# Altium schematic symbol library IC.SchLib: 55 symbols
Pins are listed as number, name and electrical type; pins without a type are passive.

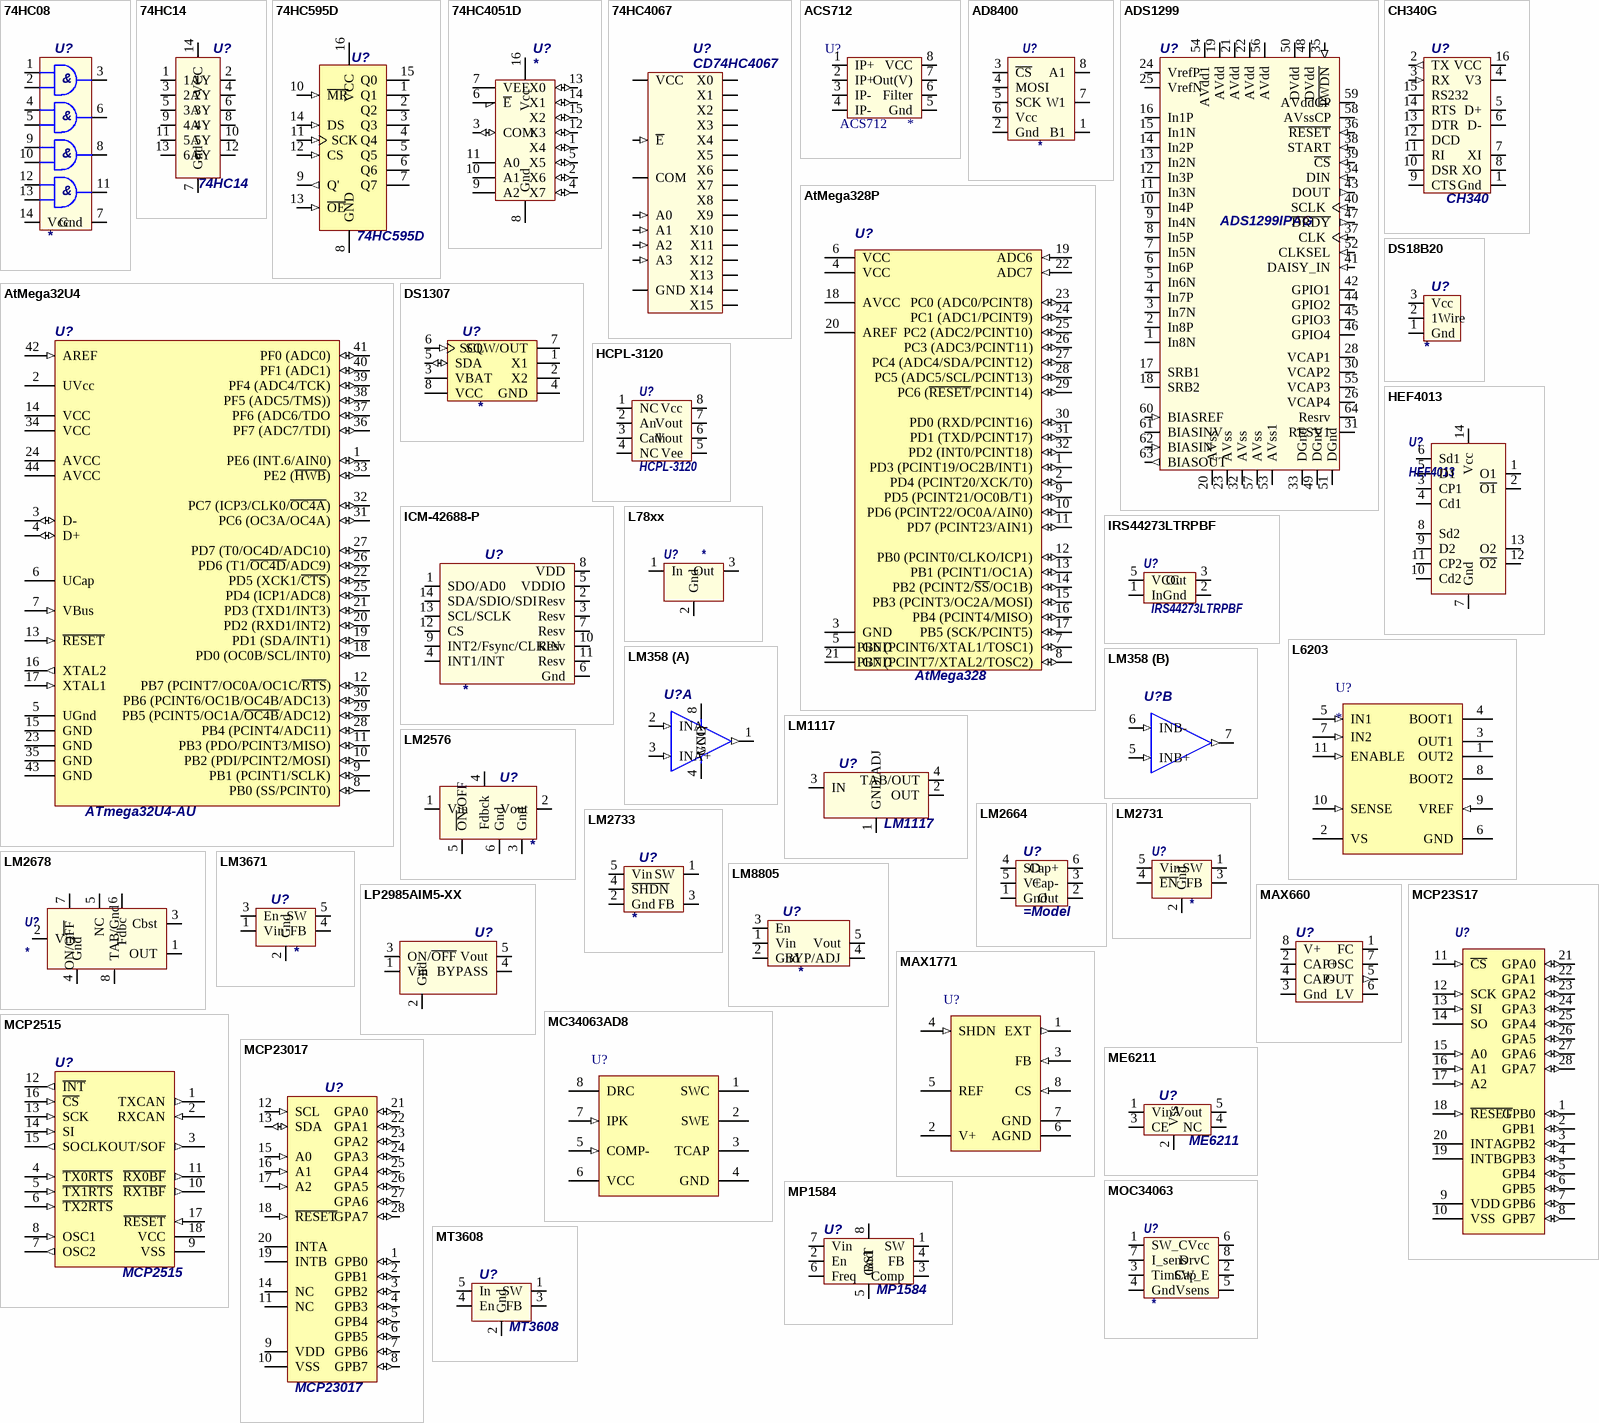
[diagram p0: symbols 74HC08 to MT3608]

## 74HC08
designator U?
Logic gate 2&; Model: *
footprint SO-14 (SOIC, 14-Leads, Body 8.8x4mm, Pitch 1.27mm)
pins: 1 1A, 2 1B, 3 1Y, 4 2A, 5 2B, 6 2Y, 7 Gnd, 8 3Y, 9 3A, 10 3B, 11 4Y, 12 4A, 13 4B, 14 Vcc
text: &

## 74HC14
designator U?
Schmitt Trigger
footprint SO-14 (SOIC, 14-Leads, Body 8.8x4mm, Pitch 1.27mm)
footprint DIP-14 (DIP, 14-Leads, Row Spacing 7.62mm, Pitch 2.54mm, Body 19.6x6.3mm)
pins: 1 1A, 2 1Y, 3 2A, 4 2Y, 5 3A, 6 3Y, 7 Gnd, 8 4Y, 9 4A, 10 5Y, 11 5A, 12 6Y, 13 6A, 14 VCC

## 74HC595D
designator U?
8-Bit Serial-In, Serial or Parallel-Out Shift Register with Output Latches, 3-State, 2 to 6 V, -40 to 125 degC, 16-Pin SOP, RoHS, Tube; Manufacturer: NXP Semiconductors; Logic Case Style: SOIC; Shift Register Function: SerialtoParallel,SerialtoSerial; No. of Elements: 1Element; Supply Voltage Min: 2V; SVHC: NoSVHC(17-Dec-2014); Supply Voltage Max: 6V; IC Output Type: TriState; No. of Pins: 16Pins; Operating Temperature Min: -40degC; Operating Temperature Max: 125degC; MSL: MSL1-Unlimited; Datasheet URL: http://datasheet.octopart.com/74HC595D%2C112-Philips-datasheet-11979826.pdf; Package Reference: SOT109-1; Manufacturer URL: http://www.nxp.com/; Package URL: http://www.nxp.com/documents/outline_drawing/SOT109-1.pdf; Datasheet Version: Rev. 6, 12/2011; Packaging: Each; Package Description: 16-Pin Small Outline Integrated Circuit, Body 9.9 x 3.9 mm, Pitch 1.27 mm; Logic Type: ShiftRegister
footprint SOIC-16 (SOP, 16-Leads, Body 9.9x3.9mm, Pitch 1.27mm)
pins: 1 Q1 (hiz) "parallel data output 1", 2 Q2 (hiz) "parallel data output 2", 3 Q3 (hiz) "parallel data output 3", 4 Q4 (hiz) "parallel data output 4", 5 Q5 (hiz) "parallel data output 5", 6 Q6 (hiz) "parallel data output 6", 7 Q7 (hiz) "parallel data output 7", 8 GND (power) "ground (0 V)", 9 Q' (out) "serial data output", 10 ~{MR} (in) "master reset (active LOW)", 11 SCK (in) "shift register clock input", 12 CS (in) "storage register clock input", 13 ~{OE} (in) "output enable input (active LOW)", 14 DS (in) "serial data input", 15 Q0 (hiz) "parallel data output 0", 16 VCC (power) "supply voltage"

## 74HC4051D
designator U?
8-ch MUX-DEMUX; Model: *
footprint 74HC4051D
pins: 1 X4 (io), 2 X6 (io), 3 COM (io), 4 X7 (io), 5 X5 (io), 6 ~{E} (power), 7 VEE (power), 8 Gnd (power), 9 A2 (power), 10 A1 (power), 11 A0 (power), 12 X3 (io), 13 X0 (io), 14 X1 (io), 15 X2 (io), 16 Vcc (power)

## 74HC4067
designator U?, comment CD74HC4067
footprint SO-24
pins: A0 (in), A1 (in), A2 (in), A3 (in), COM (io), E ~{E} (in), GND (power), VCC (power), X0 (io), X1 (io), X2 (io), X3 (io), X4 (io), X5 (io), X6 (io), X7 (io), X8 (io), X9 (io), X10 (io), X11 (io), X12 (io), X13 (io), X14 (io), X15 (io)

## ACS712
designator U?
Fully Integrated, Hall Effect-Based Linear Current Sensor / with 2.1 kVRMS Isolation and a Low-Resistance Current Conductor; Current: *
footprint SO-8
pins: 1 IP+, 2 IP+, 3 IP-, 4 IP-, 5 Gnd, 6 Filter, 7 Out(V), 8 VCC

## AD8400
designator U?
Digital potentiometer 1-ch; Value: *
footprint SO-8
pins: 1 B1, 2 Gnd, 3 ~{CS}, 4 MOSI, 5 SCK, 6 Vcc, 7 W1, 8 A1

## ADS1299
designator U?, comment ADS1299IPAG
ComponentLink1Description: Datasheet; ComponentLink1URL: https://www.ti.com/lit/ds/symlink/ads1299.pdf?HQS=dis-mous-null-mousermode-dsf-pf-null-wwe&ts=1616221614685
footprint TQFP64_0.5 (QFP, 64-Leads, Body 10x10mm, Pitch 0.5mm, IPC Medium Density)
pins: 1 In8N, 2 In8P, 3 In7N, 4 In7P, 5 In6N, 6 In6P, 7 In5N, 8 In5P, 9 In4N, 10 In4P, 11 In3N, 12 In3P, 13 In2N, 14 In2P, 15 In1N, 16 In1P, 17 SRB1 (io), 18 SRB2 (io), 19 AVdd "Analog supply. Connect a 1-μF capacitor to AVSS.", 20 AVss "Analog ground", 21 AVdd, 22 AVdd, 23 AVss, 24 VrefP "t Positive analog reference voltage. Connect a minimum 10-μF capacitor to VREFN.", 25 VrefN "Negative analog reference voltage.", 26 VCAP4 "Analog bypass capacitor pin. Connect a 1-μF capacitor to AVSS.", 28 VCAP1 "Analog bypass capacitor pin. Connect a 100-μF capacitor to AVSS.", 30 VCAP2 "Analog bypass capacitor pin. Connect a 1-μF capacitor to AVSS.", 31 RESV1 "Reserved for future use, connect directly to DGND", 32 AVss, 33 DGnd (power), 34 DIN (in), 35 ~{PWDN} (in), 36 ~{RESET} (in) "System reset, active low", 37 CLK (in), 38 START (in) "Synchronization signal to start or restart a conversion", 39 ~{CS} (in), 40 SCLK (in), 41 DAISY_IN (in) "Daisy-chain input", 42 GPIO1 (io) "Connect to DGND with a ≥10-kΩ resistor if unused.", 43 DOUT (out), 44 GPIO2 (io) "Connect to DGND with a ≥10-kΩ resistor if unused.", 45 GPIO3 (io) "Connect to DGND with a ≥10-kΩ resistor if unused.", 46 GPIO4 (io) "Connect to DGND with a ≥10-kΩ resistor if unused.", 47 ~{DRDY} (out), 48 DVdd "Digital power supply. Connect a 1-μF capacitor to DGND", 49 DGnd, 50 DVdd, 51 DGnd, 52 CLKSEL (in), 53 AVss1 "Analog ground", 54 AVdd1 "Analog supply. Connect a 1-μF capacitor to AVSS.", 55 VCAP3 "Analog bypass capacitor pin. Connect a parallel combination of 1-μF and 0.1-μF", 56 AVdd, 57 AVss, 58 AVssCP "Analog ground for charge pump", 59 AVddCP "Charge pump analog supply. Connect a 1-μF capacitor to AVSS, pin 58.", 60 BIASREF (in) "Bias drive noninverting input", 61 BIASINV (io) "Bias drive inverting input", 62 BIASIN (in) "Bias drive input to MUX", 63 BIASOUT (out) "Bias drive output", 64 Resrv "Reserved for future use, leave as open circuit"

## AtMega32U4
designator U?, comment ATmega32U4-AU
8-bit AVR Microcontroller, 2.7-5.5V, 16MHz, 32KB Flash, 1KB EEPROM, 2.5KB SRAM, USB Controller, 44-pin TQFP, Industrial Grade (-40°C to 85°C), Ext Osc; RevisionNote: DatasheetVersion updated. URLs added.; ComponentLink1Description: Manufacturer URL; PackageDescription: 44-Pin Plastic Thin Quad Flat Pack, 10 x 10 x 1.0 mm Body, 0.8 mm Pitch (TQFP); DatasheetVersion: revF, Nov-2010; ComponentLink2URL: http://www.atmel.com/dyn/resources/prod_documents/doc7766.pdf; ComponentLink1URL: http://www.atmel.com/; PackageReference: 44ML; ComponentLink2Description: ATmega16U4/32U4 Datasheet; PackageVersion: rev.G, Jul-2007; ComponentLink3URL: http://www.atmel.com/dyn/resources/prod_documents/7766S.pdf; ComponentLink3Description: ATmega16U4 ATmega32U4 Summary
footprint TQFP-44 (Thin QFP, 44-Leads, Body 10x10mm, Pitch 0.8mm, IPC Medium Density)
pins: 1 PE6 (INT.6/AIN0) (io), 2 UVcc (power), 3 D- (io), 4 D+ (io), 5 UGnd (power), 6 UCap, 7 VBus (in), 8 PB0 (SS/PCINT0) (io), 9 PB1 (PCINT1/SCLK) (io), 10 PB2 (PDI/PCINT2/MOSI) (io), 11 PB3 (PDO/PCINT3/MISO) (io), 12 PB7 (PCINT7/OC0A/OC1C/~{RTS}) (io), 13 ~{RESET} (in), 14 VCC (power), 15 GND (power), 16 XTAL2 (out), 17 XTAL1 (in), 18 PD0 (OC0B/SCL/INT0) (io), 19 PD1 (SDA/INT1) (io), 20 PD2 (RXD1/INT2) (io), 21 PD3 (TXD1/INT3) (io), 22 PD5 (XCK1/~{CTS}) (io), 23 GND (power), 24 AVCC (power), 25 PD4 (ICP1/ADC8) (io), 26 PD6 (T1/~{OC4D}/ADC9) (io), 27 PD7 (T0/OC4D/ADC10) (io), 28 PB4 (PCINT4/ADC11) (io), 29 PB5 (PCINT5/OC1A/~{OC4B}/ADC12) (io), 30 PB6 (PCINT6/OC1B/OC4B/ADC13) (io), 31 PC6 (OC3A/OC4A) (io), 32 PC7 (ICP3/CLK0/~{OC4A}) (io), 33 PE2 (~{HWB}) (io), 34 VCC (power), 35 GND (power), 36 PF7 (ADC7/TDI) (io), 37 PF6 (ADC6/TDO (io), 38 PF5 (ADC5/TMS)) (io), 39 PF4 (ADC4/TCK) (io), 40 PF1 (ADC1) (io), 41 PF0 (ADC0) (io), 42 AREF (in), 43 GND (power), 44 AVCC (power)

## AtMega328P
designator U?, comment AtMega328
footprint TQFP-32 (Thin QFP, 32-Leads, Body 7x7mm, Pitch 0.8mm, IPC Low Density)
pins: 1 PD3 (PCINT19/OC2B/INT1) (io), 2 PD4 (PCINT20/XCK/T0) (io), 3 GND (power), 4 VCC (power), 5 GND (power), 6 VCC (power), 7 PB6 (PCINT6/XTAL1/TOSC1) (io), 8 PB7 (PCINT7/XTAL2/TOSC2) (io), 9 PD5 (PCINT21/OC0B/T1) (io), 10 PD6 (PCINT22/OC0A/AIN0) (io), 11 PD7 (PCINT23/AIN1) (io), 12 PB0 (PCINT0/CLKO/ICP1) (io), 13 PB1 (PCINT1/OC1A) (io), 14 PB2 (PCINT2/~{SS}/OC1B) (io), 15 PB3 (PCINT3/OC2A/MOSI) (io), 16 PB4 (PCINT4/MISO) (io), 17 PB5 (SCK/PCINT5) (io), 18 AVCC (power), 19 ADC6 (in), 20 AREF, 21 GND (power), 22 ADC7 (in), 23 PC0 (ADC0/PCINT8) (io), 24 PC1 (ADC1/PCINT9) (io), 25 PC2 (ADC2/PCINT10) (io), 26 PC3 (ADC3/PCINT11) (io), 27 PC4 (ADC4/SDA/PCINT12) (io), 28 PC5 (ADC5/SCL/PCINT13) (io), 29 PC6 (~{RESET}/PCINT14) (io), 30 PD0 (RXD/PCINT16) (io), 31 PD1 (TXD/PCINT17) (io), 32 PD2 (INT0/PCINT18) (io)

## CH340G
designator U?, comment CH340
footprint CH340G
pins: 1 Gnd (power), 2 TX (out), 3 RX (in), 4 V3 (power), 5 D+ (power), 6 D- (power), 7 XI (power), 8 XO (power), 9 CTS (power), 10 DSR (power), 11 RI (power), 12 DCD (power), 13 DTR (power), 14 RTS (power), 15 RS232 (power), 16 VCC (power)

## DS18B20
designator U?
1Wire temperature sensor; Model: *
footprint TO-92 (TO, Flat Index; 3 In-Line, Axial Leads; Body Dia. 4.7mm; Leads 0.56 x 0.51 mm (max))
pins: 1 Gnd, 2 1Wire, 3 Vcc

## DS1307
designator U?
Real time clock IC; Model: *
footprint SO-8
footprint DIP-8 (DIP, 8-Pin, Row Spacing 7.62 mm, Pitch 2.54 mm)
pins: 1 X1, 2 X2, 3 VBAT (power), 4 GND (power), 5 SDA (io), 6 SCL (in), 7 SQW/OUT (oc), 8 VCC (power)

## HCPL-3120
designator U?
ComponentLink1Description: Datasheet; ComponentLink1URL: https://static.chipdip.ru/lib/222/DOC000222648.pdf
footprint DIP-8 (DIP, 8-Pin, Row Spacing 7.62 mm, Pitch 2.54 mm)
footprint SO-8-300 (SMT, 8-Leads, Body 9.7x6.6mm, Pitch 2.54mm)
pins: 1 NC, 2 An, 3 Cath, 4 NC, 5 Vee, 6 Vout, 7 Vout, 8 Vcc

## HEF4013
designator U?
Dual D-type flip-flop
footprint SO-14 (SOIC, 14-Leads, Body 8.8x4mm, Pitch 1.27mm)
pins: 1 O1, 2 ~{O1}, 3 CP1, 4 Cd1, 5 D1, 6 Sd1, 7 Gnd, 8 Sd2, 9 D2, 10 Cd2, 11 CP2, 12 ~{O2}, 13 O2, 14 Vcc

## ICM-42688-P
designator U?
IMU 6 axis; Model: *
footprint LGA-14N
pins: 1 SDO/AD0 "AP_SDO: AP SPI serial data output (4-wire mode);", 2 Resv "No Connect or Connect to GND", 3 Resv "No Connect or Connect to GND", 4 INT1/INT "INT1: Interrupt 1 (Note: INT1 can be push-pull or open drain)", 5 VDDIO "IO power supply voltage", 6 Gnd "Connect to GND", 7 Resv "No Connect or Connect to GND", 8 VDD "Power supply voltage", 9 INT2/Fsync/CLKIN "INT2: Interrupt 2 (Note: INT2 can be push-pull or open drain)", 10 Resv "No Connect or Connect to GND", 11 Resv "No Connect or Connect to GND", 12 CS "AP SPI Chip select (AP SPI interface); Connect to VDDIO if using AP I3CSM / I2C", 13 SCL/SCLK "AP_SCL: AP I3CSM / I2C Serial Clock; AP_SCLK - SPI clock", 14 SDA/SDIO/SDI "AP_SDA: AP I3CSM / I2C serial data; AP_SDIO: AP SPI serial data I/O (3-wire"

## IRS44273LTRPBF
designator U?
MOSFET driver 1.5/1.5A; Model: IRS44273LTRPBF
footprint SOT-23-5 (SOT23, 5-Leads, Body 2.15x1.4mm, Pitch 0.65mm, IPC Medium Density); pin to pad 3>3+4
pins: 1 In, 2 Gnd, 3 Out, 5 VCC

## L78xx
designator U?
Output voltage: *; Current: *; Power: *; Model: *
footprint TO-220 (TO, Thru-Hole, Vertical, Heatsink Mounted; 3 In-Line Leads; Pitch 2.54 mm)
footprint D-PAK (D-PAK, 4-Leads, Body 6.1x6.6mm, Pitch 2.28mm, Lead Span 9.8mm, IPC Low Density); pin to pad 2>4
footprint D2-PAK (D2-PAK, 4-Leads, Body 9.2x10.2mm, Pitch 2.54mm, Lead Span 15.4mm, IPC Medium Density); pin to pad 2>4
pins: 1 In, 2 Gnd, 3 Out

## L6203
designator U?
footprint MULTIWATT11V (THD, 11-Leads, Body 20.2x5mm, Pitch 1.7mm)
pins: 1 OUT2 (oe) "Ouput of 2nd Half Bridge", 2 VS (power) "Supply Voltage", 3 OUT1 (oe) "Output of first Half Bridge", 4 BOOT1 "A boostrap capacitor connected to this pin ensures efficient driving of the upper POWER DMOS transistor.", 5 IN1 (in) "Digital Input from the Motor Controller", 6 GND (power) "Common Ground Terminal", 7 IN2 (in) "Digital Input from the Motor Controller", 8 BOOT2 "A boostrap capacitor connected to this pin ensures efficient driving of the upper POWER DMOS transistor.", 9 VREF (in) "Internal voltage reference. A capacitor from this pin to GND is recommended. The internal Ref. Voltage can source out a current of 2mA max.", 10 SENSE (in) "A resistor Rsense connected to this pin provides feedback for motor current control.", 11 ENABLE (in) "When a logic high is present on this pin the DMOS POWER transistors are enabled to be selectively driven by IN1 and IN2."

## LM358
designator U?
footprint SO-8
part A pins: 1 OUTA (out), 2 INA- (in), 3 INA+ (in), 4 GND, 8 VCC
part B pins: 5 INB+ (in), 6 INB- (in), 7 OUTB (out)

## LM1117
designator U?
Model: *
footprint SOT-223 (SOT223, 4-Leads, Body 6.5x3.5mm, Pitch 2.3mm, Lead Span 7mm, IPC Low Density)
pins: 1 GND/ADJ, 2 OUT, 3 IN, 4 TAB/OUT

## LM2576
designator U?
Model: *; Output voltage: *; Output current: *; ComponentLink1Description: Datasheet; ComponentLink1URL: https://static.chipdip.ru/lib/713/DOC002713717.pdf
footprint TO-263-5 (D2-PAK, 6-Leads, Body 8.6x10.2mm, Pitch 1.7mm, Lead Span 14.1mm, IPC Medium Density)
pins: 1 Vin, 2 Vout, 3 Gnd, 4 Fdbck, 5 ~{ON}/OFF, 6 Gnd

## LM2664
designator U?
Switched Capacitor Voltage Converter/Inverter
footprint SOT-23-6 (SOT23, 5-Leads, Body 2.15x1.4mm, Pitch 0.65mm, IPC Medium Density)
pins: 1 Gnd, 2 Out, 3 Cap-, 4 SD "Shutdown control pin, tie this pin to V+ in normal operation, and to GND for shutdown", 5 V+, 6 Cap+

## LM2678
designator U?
Voltage: *; ComponentLink1Description: Datasheet; ComponentLink1URL: https://static.chipdip.ru/lib/142/DOC000142736.pdf
footprint TO-263-7 (DPAK, 7-Leads, Body 9.4x10.4mm, Pitch 1.27mm, IPC High Density)
pins: 1 OUT, 2 Vin, 3 Cbst, 4 Gnd, 5 NC, 6 Fdbc, 7 ON/O~{FF} , 8 TAB/Gnd

## LM2731
designator U?
DC-DC Step-Up converter; Model: *
footprint SOT-23-5 (SOT23, 5-Leads, Body 2.15x1.4mm, Pitch 0.65mm, IPC Medium Density)
pins: 1 SW, 2 Gnd, 3 FB, 4 ~{EN}, 5 Vin

## LM2733
designator U?
DC-DC Step-Up convertor; Model: *
footprint SOT-23-5 (SOT23, 5-Leads, Body 2.15x1.4mm, Pitch 0.65mm, IPC Medium Density)
pins: 1 SW, 2 Gnd, 3 FB, 4 ~{SHDN}, 5 Vin

## LM3671
designator U?
Step-Down DC-DC Converter 2-MHz, 600-mA; Model: *; Voltage: *; ComponentLink1Description: Datasheet; ComponentLink1URL: https://static.chipdip.ru/lib/550/DOC001550787.pdf
footprint SOT-23-5 (SOT23, 5-Leads, Body 2.15x1.4mm, Pitch 0.65mm, IPC Medium Density)
pins: 1 Vin, 2 Gnd, 3 En "Enable pin. The device is in shutdown mode when voltage to this pin is < 0.4", 4 FB, 5 SW "Typ. L = 2.2uH"

## LM8805
designator U?
LDO Regulator; Model: *; Voltage: *; Current: *
footprint SOT-23-5 (SOT23, 5-Leads, Body 2.15x1.4mm, Pitch 0.65mm, IPC Medium Density)
pins: 1 Vin, 2 Gnd, 3 En, 4 BYP/ADJ, 5 Vout

## LP2985AIM5-XX
designator U?
LDO voltage regulator; ComponentLink1Description: Datasheet; ComponentLink1URL: https://static.chipdip.ru/lib/159/DOC000159844.pdf; Vout: *
footprint SOT-23-5 (SOT23, 5-Leads, Body 2.15x1.4mm, Pitch 0.65mm, IPC Medium Density)
pins: 1 Vin, 2 Gnd, 3 ON/~{OFF}, 4 BYPASS "Bypass cap for reduce noise, =>0.01uF", 5 Vout "Min cap 2.2uF"

## MAX660
designator U?
DC-DC converter/inverter/doubler switched capacitor; Current: 0.1A; Vin: 1.5...5.5; Frequency: 80kHz; ComponentLink1Description: Datasheet; ComponentLink1URL: https://static.chipdip.ru/lib/235/DOC000235556.pdf
footprint SO-8
footprint DIP-8 (DIP, 8-Pin, Row Spacing 7.62 mm, Pitch 2.54 mm)
pins: 1 FC "Frequency Control for internal oscillator", 2 CAP+ "Charge-Pump Capacitor, Positive Terminal", 3 Gnd, 4 CAP- "Charge-Pump Capacitor, Negative Termina", 5 OUT (out), 6 LV, 7 OSC, 8 V+

## MAX1771
designator U?
ComponentLink1Description: Datasheet; ComponentLink1URL: https://lib.chipdip.ru/300/DOC000300892.pdf
footprint SO-8
footprint DIP-8 (DIP, 8-Pin, Row Spacing 7.62 mm, Pitch 2.54 mm)
pins: 1 EXT (out) "Gate Drive for External N-Channel Power Transistor", 2 V+ (power) "Power-Supply Input. Also acts as a voltage-sense point when in bootstrapped mode.", 3 FB (in) "Feedback Input for Adjustable-Output Operation. Connect to ground for fixed-output operation. Use a resistor divider network to adjust the output voltage. See Setting the Output Voltage section.", 4 SHDN (in) "Active-High TTL/CMOS Logic-Level Shutdown Input. In shutdown mode, VOUT is a diode drop below V+ (due to the DC path from V+ to the output) and the supply current drops to 5 uA maximum. Connect to ground for normal operation.", 5 REF "1.5V Reference Output that can source 100µA for external loads. Bypass to GND with 0.1 uF. The reference is disabled in shutdown.", 6 AGND (power) "Analog Ground", 7 GND (power) "High-Current Ground Return for the Output Driver", 8 CS (in) "Positive Input to the Current-Sense Amplifier. Connect the current-sense resistor between CS and GND."

## MC34063AD8
designator U?
footprint SO-8
pins: 1 SWC (oc), 2 SWE (oe), 3 TCAP, 4 GND (power), 5 COMP- (in), 6 VCC (power), 7 IPK (in), 8 DRC (oc)

## MCP23S17
designator U?
footprint SO-28 (SOIC, 28-Leads, Body 17.9x7.5mm, Pitch 1.27mm, IPC Medium Density)
pins: 1 GPB0 (io), 2 GPB1 (io), 3 GPB2 (io), 4 GPB3 (io), 5 GPB4 (io), 6 GPB5 (io), 7 GPB6 (io), 8 GPB7 (io), 9 VDD (power), 10 VSS (power), 11 ~{CS} (in), 12 SCK (in), 13 SI (in), 14 SO (hiz), 15 A0 (in), 16 A1 (in), 17 A2 (in), 18 ~{RESET} (in), 19 INTB (oc), 20 INTA (oc), 21 GPA0 (io), 22 GPA1 (io), 23 GPA2 (io), 24 GPA3 (io), 25 GPA4 (io), 26 GPA5 (io), 27 GPA6 (io), 28 GPA7 (io)

## MCP2515
designator U?
CAN bus controller
footprint SOIC-18 (SOIC, 18-Leads, Body 11.5x7.5mm, Pitch 1.27mm, IPC High Density)
pins: 1 TXCAN (out), 2 RXCAN (in), 3 CLKOUT/SOF (out), 4 ~{TX0RTS} (in), 5 ~{TX1RTS} (in), 6 ~{TX2RTS} (in), 7 OSC2 (out), 8 OSC1 (in), 9 VSS (power), 10 ~{RX1BF} (out), 11 ~{RX0BF} (out), 12 ~{INT} (out), 13 SCK (in), 14 SI (in), 15 SO (out), 16 ~{CS} (in), 17 ~{RESET} (in), 18 VCC (power)

## MCP23017
designator U?
footprint SO-28 (SOIC, 28-Leads, Body 17.9x7.5mm, Pitch 1.27mm, IPC High Density)
footprint DIP-28
pins: 1 GPB0 (io), 2 GPB1 (io), 3 GPB2 (io), 4 GPB3 (io), 5 GPB4 (io), 6 GPB5 (io), 7 GPB6 (io), 8 GPB7 (io), 9 VDD (power), 10 VSS (power), 11 NC, 12 SCL (in), 13 SDA (io), 14 NC, 15 A0 (in), 16 A1 (in), 17 A2 (in), 18 ~{RESET} (in), 19 INTB (oc), 20 INTA (oc), 21 GPA0 (io), 22 GPA1 (io), 23 GPA2 (io), 24 GPA3 (io), 25 GPA4 (io), 26 GPA5 (io), 27 GPA6 (io), 28 GPA7 (io)

## ME6211
designator U?
Linear voltage regulator LDO; Model: ME6211
footprint SOT-23-5 (SOT23, 5-Leads, Body 2.15x1.4mm, Pitch 0.65mm, IPC Medium Density)
pins: 1 Vin, 2 Vss, 3 CE, 4 NC, 5 Vout

## MOC34063
designator U?
Model: *
footprint SO-8
pins: 1 SW_C, 2 SW_E, 3 TimCap, 4 Gnd, 5 Vsens, 6 Vcc, 7 I_sens, 8 DrvC

## MP1584
designator U?
ComponentLink1Description: Datasheet; ComponentLink1URL: https://static.chipdip.ru/lib/807/DOC005807061.pdf
footprint SO-8
pins: 1 SW, 2 En, 3 Comp, 4 FB, 5 Gnd, 6 Freq, 7 Vin, 8 BST

## MT3608
designator U?
DC-DC Step-Up converter
footprint SOT-23-6 (SOT23, 5-Leads, Body 2.15x1.4mm, Pitch 0.65mm, IPC Medium Density)
pins: 1 SW, 2 Gnd, 3 FB, 4 En, 5 In

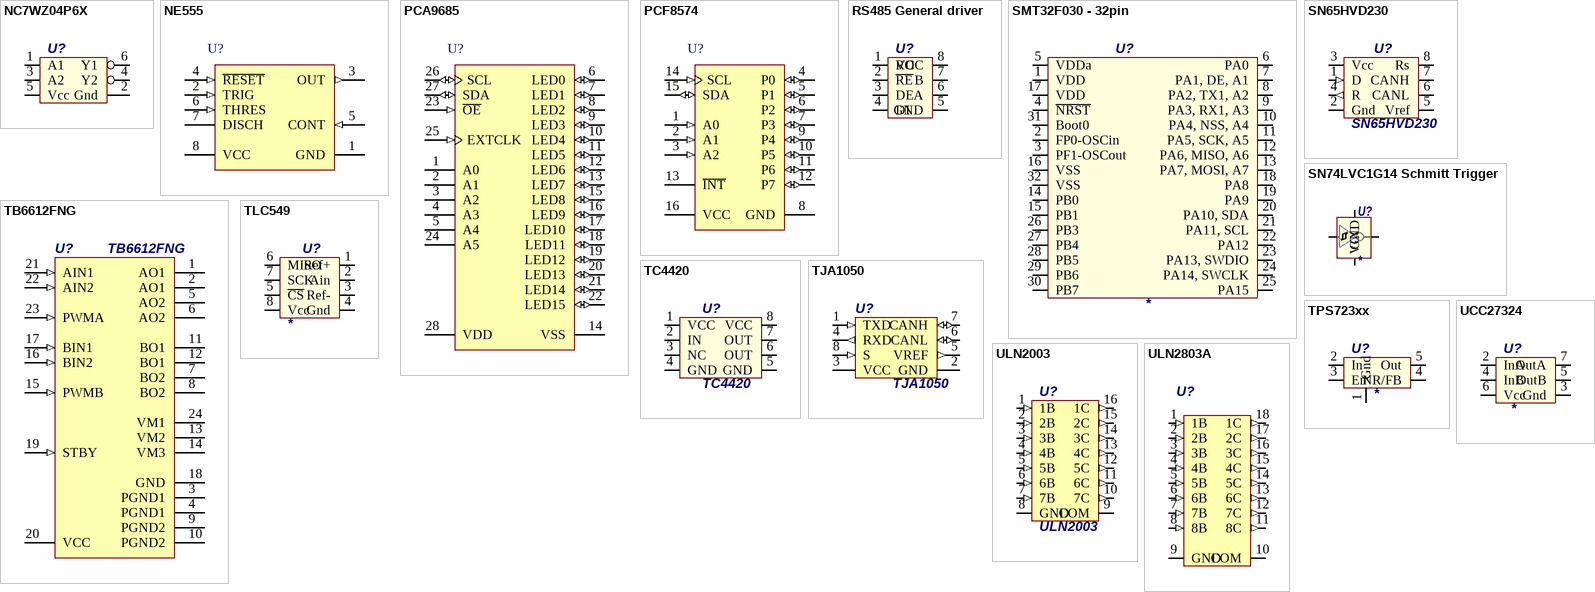
[diagram p1: symbols NC7WZ04P6X to ULN2803A]

## NC7WZ04P6X
designator U?  (value not drawn)
Dual invertor with Schmitt trigger
footprint SC70-6
pins: 1 A1, 2 Gnd, 3 A2, 4 Y2, 5 Vcc, 6 Y1

## NE555
designator U?
footprint SO-8
footprint DIP-8 (DIP, 8-Pin, Row Spacing 7.62 mm, Pitch 2.54 mm)
pins: 1 GND (power), 2 TRIG (in), 3 OUT (out), 4 ~{RESET} (in), 5 CONT (in), 6 THRES (in), 7 DISCH (oc), 8 VCC (power)

## PCA9685
designator U?
footprint TSSOP-28 (SOP, 28-Leads, Body 9.7x4.4mm, Pitch 0.65mm, NXP Recommended)
pins: 1 A0 "address input 0", 2 A1 "address input 1", 3 A2 "address input 2", 4 A3 "address input 3", 5 A4 "address input 4", 6 LED0 (io) "LED driver 0", 7 LED1 (io) "LED driver 1", 8 LED2 (io) "LED driver 2", 9 LED3 (io) "LED driver 3", 10 LED4 (io) "LED driver 4", 11 LED5 (io) "LED driver 5", 12 LED6 (io) "LED driver 6", 13 LED7 (io) "LED driver 7", 14 VSS (power) "supply ground", 15 LED8 (io) "LED driver 8", 16 LED9 (io) "LED driver 9", 17 LED10 (io) "LED driver 10", 18 LED11 (io) "LED driver 11", 19 LED12 (io) "LED driver 12", 20 LED13 (io) "LED driver 13", 21 LED14 (io) "LED driver 14", 22 LED15 (io) "LED driver 15", 23 ~{OE} (in) "active LOW output enable", 24 A5 "address input 5", 25 EXTCLK (in) "external clock input", 26 SCL (io) "serial clock line", 27 SDA (io) "serial data line", 28 VDD (power) "supply voltage"

## PCF8574
designator U?
footprint SOIC-16W (SOIC, 16-Leads, Body 10.5x7.6mm, Pitch 1.27mm, IPC Medium Density)
pins: 1 A0 (in), 2 A1 (in), 3 A2 (in), 4 P0 (io), 5 P1 (io), 6 P2 (io), 7 P3 (io), 8 GND (power), 9 P4 (io), 10 P5 (io), 11 P6 (io), 12 P7 (io), 13 ~{INT} (oc), 14 SCL (in), 15 SDA (io), 16 VCC (power)

## RS485 General driver
designator U?
ComponentLink1Description: Datasheet; ComponentLink1URL: https://static.chipdip.ru/lib/222/DOC000222333.pdf
footprint SO-8
footprint DIP-8 (DIP, 8-Pin, Row Spacing 7.62 mm, Pitch 2.54 mm)
pins: 1 RO, 2 ~{RE}, 3 DE, 4 DI, 5 GND, 6 A, 7 B, 8 VCC

## SMT32F030 - 32pin
designator U?
Model: *
footprint TQFP-32 (Thin QFP, 32-Leads, Body 7x7mm, Pitch 0.8mm, IPC Low Density)
pins: 1 VDD, 2 FP0-OSCin, 3 PF1-OSCout, 4 ~{NRST}, 5 VDDa, 6 PA0, 7 PA1, DE, A1, 8 PA2, TX1, A2, 9 PA3, RX1, A3, 10 PA4, NSS, A4, 11 PA5, SCK, A5, 12 PA6, MISO, A6, 13 PA7, MOSI, A7, 14 PB0, 15 PB1, 16 VSS, 17 VDD, 18 PA8, 19 PA9, 20 PA10, SDA, 21 PA11, SCL, 22 PA12, 23 PA13, SWDIO, 24 PA14, SWCLK, 25 PA15, 26 PB3, 27 PB4, 28 PB5, 29 PB6, 30 PB7, 31 Boot0, 32 VSS

## SN65HVD230
designator U?
CAN tranceiver
footprint SO-8
pins: 1 D (in), 2 Gnd (power), 3 Vcc (power), 4 R (out), 5 Vref, 6 CANL, 7 CANH, 8 Rs

## SN74LVC1G14 Schmitt Trigger
designator U?
Model: *
footprint SOT-23-5 (SOT23, 5-Leads, Body 2.15x1.4mm, Pitch 0.65mm, IPC Medium Density)
pins: 2, 3 GND, 4, 5 VCC

## TB6612FNG
designator U?
Driver IC for Dual DC Motor, 15 V, -20 to 85 degC, 24-Pin SSOP, RoHS, Tape and Reel; Elements: 2; Max Power Dissipation: 200 mW; Max Surge Current: 100 mA; Element Configuration: Common Cathode; Case\Package: TO-236-3; Forward Voltage: 1 V; Peak Reverse Current: 0.1 uA; Forward Current: 70 mA; Recovery Time: 5 ns; Radiation Hardening: No; Packaging: Tape and Reel; ComponentLink2Description: Datasheet; REACH SVHC: No SVHC; ComponentLink2URL: https://toshiba.semicon-storage.com/info/docget.jsp?did=10660&prodName=TB6612FNG; RoHSCompliant: true; DatasheetVersion: Oct-14; PackageDescription: 24-Pin Shrink Small Outline Package Integrated Circuit, Body 7.8 x 5.6 mm, Pitch 0.65 mm; Package Quantity: 3000; Length: 3 mm; Pins: 3; Mount: Surface Mount; ComponentLink1Description: Manufacturer URL; PackageReference: SSOP-24; ComponentLink1URL: http://www.toshiba.com/; Width: 1.4 mm; Max Operating Temperature: 125 degC; Height: 1.1 mm; Min Operating Temperature: -55 degC
footprint TSSOP-28 (SOP, 28-Leads, Body 9.7x4.4mm, Pitch 0.65mm, NXP Recommended)
pins: 1 AO1 (hiz) "chA output1", 2 AO1 (hiz) "chA output1", 3 PGND1 (power) "Power GND 1", 4 PGND1 (power) "Power GND 1", 5 AO2 (hiz) "chA output2", 6 AO2 (hiz) "chA output2", 7 BO2 (hiz) "chB output2", 8 BO2 (hiz) "chB output2", 9 PGND2 (power) "Power GND 2", 10 PGND2 (power) "Power GND 2", 11 BO1 (hiz) "chB output1", 12 BO1 (hiz) "chB output1", 13 VM2 (power) "Motor supply(2.5V~13.5V)", 14 VM3 (power) "Motor supply(2.5V~13.5V)", 15 PWMB (in) "chB PWM input / 200kohm pull-down at internal", 16 BIN2 (in) "chB input2 / 200kohm pull-down at internal", 17 BIN1 (in) "chB input1 / 200kohm pull-down at internal", 18 GND (power) "Small signal GND", 19 STBY (in) "“L”=standby / 200kohm pull-down at internal", 20 VCC (power) "Small signal supply (2.7V~5.5V)", 21 AIN1 (in) "chA input2 / 200kohm pull-down at internal", 22 AIN2 (in) "chA input1 / 200kohm pull-down at internal", 23 PWMA (in) "chA PWM input / 200kohm pull-down at internal", 24 VM1 (power) "Motor supply(2.5V~13.5V)"

## TC4420
designator U?
footprint DIP-8 (DIP, 8-Pin, Row Spacing 7.62 mm, Pitch 2.54 mm)
footprint SO-8
pins: 1 VCC, 2 IN, 3 NC, 4 GND, 5 GND, 6 OUT, 7 OUT, 8 VCC

## TJA1050
designator U?
footprint SO-8
pins: 1 TXD (in), 2 GND (power), 3 VCC (power), 4 RXD (out), 5 VREF (out), 6 CANL (io), 7 CANH (io), 8 S (in)

## TLC549
designator U?
ADC 8-bit SPI; Model: *
footprint SO-8
pins: 1 Ref+, 2 Ain, 3 Ref-, 4 Gnd, 5 ~{CS}, 6 MISO, 7 SCK, 8 Vcc

## TPS723xx
designator U?
Negative Output Low-Dropout Linear Regulators; Model: *; Voltage: *; ComponentLink1Description: Datasheet; ComponentLink1URL: https://www.ti.com/lit/ds/symlink/tps723.pdf?ts=1618705062746&ref_url=https%253A%252F%252Fwww.ti.com%252Fproduct%252FTPS723
footprint SOT-23-5 (SOT23, 5-Leads, Body 2.15x1.4mm, Pitch 0.65mm, IPC Medium Density)
pins: 1 Gnd, 2 In, 3 En "Bipolar enable pin. Driving this pin above the positive enable threshold or below the negative", 4 NR/FB, 5 Out

## UCC27324
designator U?
MOSFET/IGBT gate driver; Model: *
footprint SO-8
pins: 2 InA, 3 Gnd, 4 InB, 5 OutB, 6 Vcc, 7 OutA

## ULN2003
designator U?
footprint SOIC-16 (SOP, 16-Leads, Body 9.9x3.9mm, Pitch 1.27mm)
pins: 1 1B (in) "Channel 1 through 7 darlington base input", 2 2B (in) "Channel 1 through 7 darlington base input", 3 3B (in) "Channel 1 through 7 darlington base input", 4 4B (in) "Channel 1 through 7 darlington base input", 5 5B (in) "Channel 1 through 7 darlington base input", 6 6B (in) "Channel 1 through 7 darlington base input", 7 7B (in) "Channel 1 through 7 darlington base input", 8 GND (power) "Common Emmitter shared by all channels (typically tied to ground)", 9 COM "Common cathode node for flyback diodes (required for inductive loads)", 10 7C (out) "Channel 1 through 7 darlington collector output", 11 6C (out) "Channel 1 through 7 darlington collector output", 12 5C (out) "Channel 1 through 7 darlington collector output", 13 4C (out) "Channel 1 through 7 darlington collector output", 14 3C (out) "Channel 1 through 7 darlington collector output", 15 2C (out) "Channel 1 through 7 darlington collector output", 16 1C (out) "Channel 1 through 7 darlington collector output"

## ULN2803A
designator U?, comment TI-ULN2803A-SOIC_DW-18  (value not drawn)
footprint SOIC18-300 (SOIC, 18-Leads, Body 11.8x7.6mm, Pitch 1.27mm, IPC High Density)
pins: 1 1B (in) "Channel 1 through 7 darlington base input", 2 2B (in) "Channel 1 through 7 darlington base input", 3 3B (in) "Channel 1 through 7 darlington base input", 4 4B (in) "Channel 1 through 7 darlington base input", 5 5B (in) "Channel 1 through 7 darlington base input", 6 6B (in) "Channel 1 through 7 darlington base input", 7 7B (in) "Channel 1 through 7 darlington base input", 8 8B (in) "Channel 1 through 7 darlington base input", 9 GND (power) "Common Emmitter shared by all channels (typically tied to ground)", 10 COM "Common cathode node for flyback diodes (required for inductive loads)", 11 8C (out) "Channel 1 through 7 darlington collector output", 12 7C (out) "Channel 1 through 7 darlington collector output", 13 6C (out) "Channel 1 through 7 darlington collector output", 14 5C (out) "Channel 1 through 7 darlington collector output", 15 4C (out) "Channel 1 through 7 darlington collector output", 16 3C (out) "Channel 1 through 7 darlington collector output", 17 2C (out) "Channel 1 through 7 darlington collector output", 18 1C (out) "Channel 1 through 7 darlington collector output"